# Altium schematic symbol library Bourns_Library.SchLib: 3 symbols
Pins are listed as number, name and electrical type; pins without a type are passive.

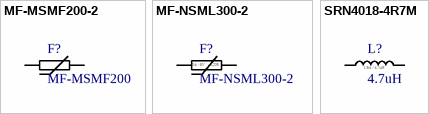
[diagram p0: symbols MF-MSMF200-2 to SRN4018-4R7M]

## MF-MSMF200-2
designator F?, comment MF-MSMF200
PTC RESETTABLE 2.00A 8V 1812; Manufacturer: Bourns; Manufacturer Part Number: MF-MSMF200-2; Max Current Rating: 40A; Power Dissipation: 800mW; Hold Current: 2A; Trip Current: 4A; Resistance: 80mR; Time to Trip: 3s; Approvals: UL,CSA,TUV; Supplier 1: Mouser; Stock 1: 5483; Pricing 1: 1=0.38, 10=0.306, 50=0.306, 100=0.255, 1000=0.244, 10000=0.244 (USD); Mount: Surface Mount,PCB; Case/Package: 1812; Case Code (Metric): 4532; Case Code (Imperial): 1812; Number of Terminals: 2; Terminal Material: Nickel; Min Operating Temperature: -40°C; Max Operating Temperature: 85°C; Current Rating: 40A; Package Quantity: 2000; Packaging: Tape and Reel; Operating Supply Voltage: 8V; Voltage Rating: 8V; Termination: SMD/SMT; Max Power Dissipation: 800mW; Voltage Rating (DC): 8V; Length: 4.73mm; Height: 0.85mm; Width: 3.41mm; Radiation Hardening: No; REACH SVHC: No SVHC; Lead Free: Lead Free; ComponentLink1URL: https://datasheet.ciiva.com/1228/1786007-1228163.pdf; ComponentLink1Description: https://datasheet.ciiva.com/1228/1786007-1228163.pdf; ComponentLink2URL: https://datasheet.ciiva.com/3020/mfmsmf-3020419.pdf; ComponentLink2Description: https://datasheet.ciiva.com/3020/mfmsmf-3020419.pdf; ComponentLink3URL: https://datasheet.ciiva.com/326/mfmsmf-326966.pdf; ComponentLink3Description: https://datasheet.ciiva.com/326/mfmsmf-326966.pdf; ComponentLink4URL: https://datasheet.ciiva.com/326/mfmsmf-326967.pdf; ComponentLink4Description: https://datasheet.ciiva.com/326/mfmsmf-326967.pdf; ComponentLink5URL: https://datasheet.ciiva.com/326/mfmsmf-326968.pdf; ComponentLink5Description: https://datasheet.ciiva.com/326/mfmsmf-326968.pdf; ComponentLink6URL: https://datasheet.ciiva.com/16692/mfmsmf-16692201.pdf; ComponentLink6Description: https://datasheet.ciiva.com/16692/mfmsmf-16692201.pdf; ComponentLink7URL: https://datasheet.ciiva.com/3019/mfmsmf-3019786.pdf; ComponentLink7Description: https://datasheet.ciiva.com/3019/mfmsmf-3019786.pdf; ComponentLink8URL: https://datasheet.ciiva.com/28411/1786007-28411578.pdf; ComponentLink8Description: https://datasheet.ciiva.com/28411/1786007-28411578.pdf; ComponentLink9URL: https://datasheet.ciiva.com/1274/1786007-1274556.pdf; ComponentLink9Description: https://datasheet.ciiva.com/1274/1786007-1274556.pdf; ComponentLink10URL: https://datasheet.ciiva.com/15187/getdatasheetpartid-117210-15187148.pdf; ComponentLink10Description: https://datasheet.ciiva.com/15187/getdatasheetpartid-117210-15187148.pdf; ComponentLink11URL: https://datasheet.ciiva.com/1274/1786007-1274557.pdf; ComponentLink11Description: https://datasheet.ciiva.com/1274/1786007-1274557.pdf; ComponentLink12URL: https://datasheet.ciiva.com/30196/575mfmsmf-30196429.pdf; ComponentLink12Description: https://datasheet.ciiva.com/30196/575mfmsmf-30196429.pdf
footprint Bourns MF-MSMF (Style1) (Bourns MF-MSMF)
pins: 1, 2

## MF-NSML300-2
designator F?
Manufacturer: Bourns; Supplier 1: Mouser; Manufacturer Part Number: MF-NSML300-2; Stock 1: 4059; Pricing 1: 1=0.86, 10=0.783, 50=0.648, 100=0.54, 1000=0.392, 10000=0.372 (USD); ComponentLink1URL: http://www.farnell.com/datasheets/2339790.pdf; ComponentLink1Description: http://www.farnell.com/datasheets/2339790.pdf
footprint Bourns MF-NSML (PTC1206) (IPC Medium Density)
pins: 1, 2
text: 3A / 6V      1206

## SRN4018-4R7M
designator L?, comment 4.7uH
FIXED IND 4.7UH 1.9A 84 MOHM SMD; Manufacturer: Bourns; Manufacturer Part Number: SRN4018-4R7M; Core Material: Ferrite; Material: Steel; Saturation Current: 2A; Tolerance: 20%; Shielding: Shielded; DC Resistance (DCR): 84mR; Self Resonant Frequency: 35MHz; Test Frequency: 100kHz; Supplier 1: Mouser; Stock 1: 1984; Pricing 1: 1=0.36, 10=0.246, 50=0.246, 100=0.224, 1000=0.152, 10000=0.131 (USD); Mount: Surface Mount; Case/Package: Nonstandard; Number of Pins: 2; Min Operating Temperature: -25°C; Max Operating Temperature: 120°C; Packaging: Cut Tape; Package Quantity: 3000; Current Rating: 1.9A; Inductance: 4.7uh; Inductance Tolerance: 20%; Composition: Wirewound; Max DC Current: 1.9A; Termination: SMD/SMT; RMS Current (Irms): 1.9A; DC Current: 1.9A; Military Standard: Not; Length: 4mm; Height: 1.8mm; Width: 4mm; Height - Seated (Max): 0.071inch; Depth: 4.2mm; Radiation Hardening: No; REACH SVHC: No SVHC; ComponentLink1URL: https://datasheet.ciiva.com/6700/srn4018-6700960.pdf; ComponentLink1Description: https://datasheet.ciiva.com/6700/srn4018-6700960.pdf; ComponentLink2URL: https://datasheet.ciiva.com/22717/1684089-22717774.pdf; ComponentLink2Description: https://datasheet.ciiva.com/22717/1684089-22717774.pdf; ComponentLink3URL: https://datasheet.ciiva.com/46395/1684089-46395167.pdf; ComponentLink3Description: https://datasheet.ciiva.com/46395/1684089-46395167.pdf
footprint Bourns SRN4018
pins: 1, 2
text: 1.9A / 4.7uH